# Altium schematic symbol library CAPs.SchLib: 3 symbols
Pins are listed as number, name and electrical type; pins without a type are passive.

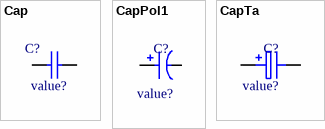
[diagram p0: symbols Cap to CapTa]

## Cap
designator C?  value value?  (hidden comment: Cap)
footprint LC-0805_C
footprint LC-0603_C
footprint LC-1210_C
footprint LC-1206_C
pins: 1, 2

## CapPol1
designator C?, comment value?
value: value?
footprint CapPol-4-5.4
footprint CAPPOL-5-5.4
footprint CAPPOL-6.3-5.4
footprint CAPPOL-6.3-7.7
footprint CAPPOL-8-6.2
footprint CAPPOL-8-10.5
footprint CAPPOL-10-10.5
footprint CAPPOL-10-13.5
footprint CAPPOL-10-10.5-new
footprint CAPPOL-6.3-7.7-new (Capacitor, Aluminum Electrolytic; 6.60 mm L X 6.60 mm W X 7.70 mm H body)
pins: A, C

## CapTa
designator C?  value value?  (hidden comment: CapTa)
footprint LC-CASE-A_3216
footprint CapTa-7343
pins: 1, 2